# Altium schematic symbol library LT-LT1086-T-3.SchLib: 1 symbol
Pins are listed as number, name and electrical type; pins without a type are passive.

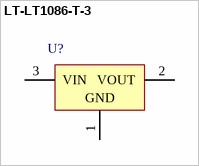
[diagram p0: symbol LT-LT1086-T-3]

## LT-LT1086-T-3
designator U?
pins: 1 GND (power), 2 VOUT (power), 3 VIN (power)